# Altium footprint library MyFootprints.PcbLib: 2 footprints
Each footprint in its own frame and in the unit in brackets; x right, y up, seen from the top. Pads: shape width x height; smd on the part's side, far side on the other; paste and mask are expansions set on the pad; w line width, h text height; cw(c..) or ccw(c..) is an arc to the next point about the centre after c.
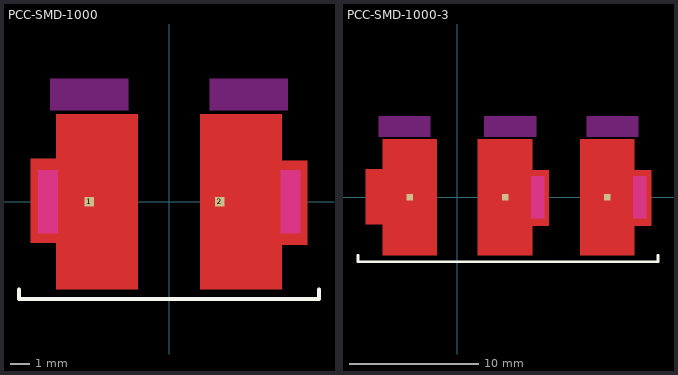
[diagram p0: the footprints below, top view; thin cyan lines are the x and y axes]

## PCC-SMD-1000 [mm] "PCC-SMD-1000 Connetor"
height 12
pads (2):
  rect 0.5x0.5 smd: 1(-4.1,0) 2(2.6,0)
Top Layer:
  region: 1.6,-4.5 1.6,4.5 5.8,4.5 5.8,2.1 7.1,2.1 7.1,-2.2 5.8,-2.2 5.8,-4.5
  region: -1.6,4.5 -1.6,-4.5 -5.8,-4.5 -5.8,-2.1 -7.1,-2.1 -7.1,2.2 -5.8,2.2 -5.8,4.5
Top Overlay:
  lines w0.2: -7.7,-4.5 -7.7,-5 7.7,-5 7.7,-4.5
Keep-Out Layer:
  board cut-out: 6.725,-1.625 5.725,-1.625 5.725,1.625 6.725,1.625
  board cut-out: -5.7,-1.625 -6.7,-1.625 -6.7,1.625 -5.7,1.625
  board cut-out: 6.1,4.7 6.1,6.3 2.1,6.3 2.1,4.7
  board cut-out: -2.1,4.7 -2.1,6.3 -6.1,6.3 -6.1,4.7

## PCC-SMD-1000-3 [mm] "Circuit Board Thermocouple, RTD, Thermistor Connectors For Miniature Connectors"
height 10
pads (3):
  rect 0.5x0.5 smd: 1(-3.7,0) 2(3.7,0) 3(11.625,0)
Top Layer:
  region: 9.525,-4.5 9.525,4.5 13.725,4.5 13.725,2.1 15.025,2.1 15.025,-2.2 13.725,-2.2 13.725,-4.5
  region: 1.6,-4.5 1.6,4.5 5.8,4.5 5.8,2.1 7.1,2.1 7.1,-2.2 5.8,-2.2 5.8,-4.5
  region: -1.6,4.5 -1.6,-4.5 -5.8,-4.5 -5.8,-2.1 -7.1,-2.1 -7.1,2.2 -5.8,2.2 -5.8,4.5
Top Overlay:
  lines w0.2: -7.7,-4.5 -7.7,-5 15.55,-5 15.55,-4.5
Keep-Out Layer:
  board cut-out: 14.65,-1.625 13.65,-1.625 13.65,1.625 14.65,1.625
  board cut-out: 14.025,4.7 14.025,6.3 10.025,6.3 10.025,4.7
  board cut-out: 6.725,-1.625 5.725,-1.625 5.725,1.625 6.725,1.625
  board cut-out: 6.1,4.7 6.1,6.3 2.1,6.3 2.1,4.7
  board cut-out: -2.1,4.7 -2.1,6.3 -6.1,6.3 -6.1,4.7
Multi-Layer:
  pour cut-out: -5.7,-1.625 -6.7,-1.625 -6.7,1.625 -5.7,1.625